# Altium schematic symbol library Infinion.SchLib: 1 symbol
Pins are listed as number, name and electrical type; pins without a type are passive.

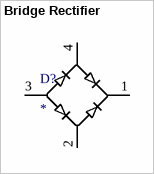
[diagram p0: symbol Bridge Rectifier]

## Bridge Rectifier
designator D?
Bridge Rectifier
footprint SOT-143
pins: 1 (power) "Power Input", 2 (power) "Power Input", 3 (power) "Power Input", 4 (power) "Power Input"